# EAGLE library part TSSOP-16 (library yapo)
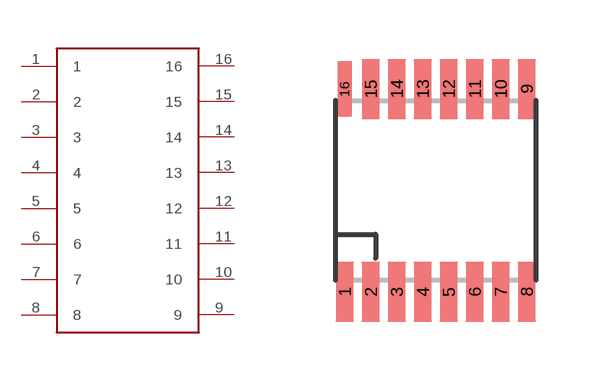
[diagram p35: symbol with the pads of TSSOP-16; footprint TSSOP-16]

Designator prefix IC

## TSSOP-16  [TSSOP-16]
1  1
2  2
3  3
4  4
5  5
6  6
7  7
8  8
9  9
10  10
11  11
12  12
13  13
14  14
15  15
16  16

## Footprint TSSOP-16 (pad centres in mm)
smd 0.45 x 1.5: 1 -2.275,-2.54; 2 -1.625,-2.54; 3 -0.975,-2.54; 4 -0.325,-2.54; 5 0.325,-2.54; 6 0.975,-2.54; 7 1.625,-2.54; 8 2.275,-2.54; 9 2.275,2.54; 10 1.625,2.54; 11 0.975,2.54; 12 0.325,2.54; 13 -0.325,2.54; 14 -0.975,2.54; 15 -1.625,2.54
smd 0.35 x 1.4: 16 -2.275,2.54